# Altium schematic symbol library tp4056.SchLib: 1 symbol
Pins are listed as number, name and electrical type; pins without a type are passive.

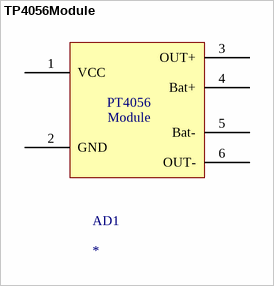
[diagram p0: symbol TP4056Module]

## TP4056Module
designator AD1
TP4056 module
footprint TP4056Module
pins: 1 VCC, 2 GND, 3 OUT+, 4 Bat+, 5 Bat-, 6 OUT-
text: PT4056; Module